# Altium schematic symbol library CTP_FPC.SchLib: 1 symbol
Pins are listed as number, name and electrical type; pins without a type are passive.

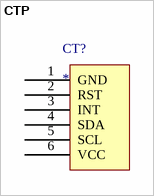
[diagram p0: symbol CTP]

## CTP
designator CT?
footprint FPC0.5-WT-6P (长：7.2mm，宽：5.2mm，高：2mm               黄晶宝石)
pins: 1 GND, 2 RST, 3 INT, 4 SDA, 5 SCL, 6 VCC